# EAGLE library part LORA1278-433 (library NiceRF)
NiceRF LoRa1278 Module
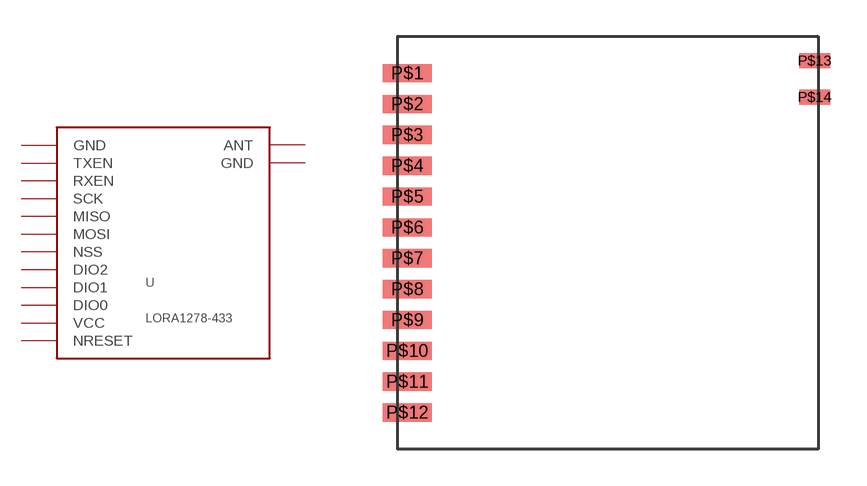
[diagram p0: symbol with the pads of LORA1278; footprint LORA1278]

Designator prefix -

## LORA1278-433  [LORA1278]
P$1  GND  pwr
P$2  TXEN
P$3  RXEN
P$4  SCK
P$5  MISO
P$6  MOSI
P$7  NSS
P$8  DIO2
P$9  DIO1
P$10  DIO0
P$11  VCC  pwr
P$12  NRESET
P$13  ANT
P$14  GND  pwr

## Footprint LORA1278 (pad centres in mm)
NiceRF LoRa1278 Module
smd 2 x 0.75: P$1 -8.255,6.985; P$2 -8.255,5.715; P$3 -8.255,4.445; P$4 -8.255,3.175; P$5 -8.255,1.905; P$6 -8.255,0.635; P$7 -8.255,-0.635; P$8 -8.255,-1.905; P$9 -8.255,-3.175; P$10 -8.255,-4.445; P$11 -8.255,-5.715; P$12 -8.255,-6.985
smd 1.27 x 0.635: P$13 8.5,7.5; P$14 8.5,6